# Altium footprint library SDCardAdapter.PcbLib: 1 footprints
Each footprint in its own frame and in the unit in brackets; x right, y up, seen from the top. Pads: shape width x height; smd on the part's side, far side on the other; paste and mask are expansions set on the pad; w line width, h text height; cw(c..) or ccw(c..) is an arc to the next point about the centre after c.
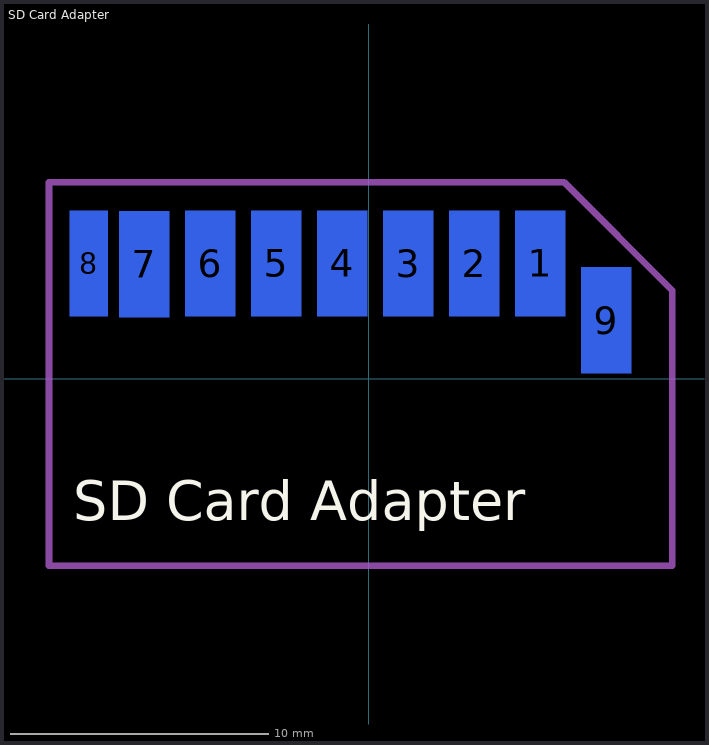
[diagram p0: the footprint, top view; thin cyan lines are the x and y axes]

## SD Card Adapter [mm]
pads (9):
  rect 1.94x4.1 smd far side: 1(6.636,4.473) 2(4.081,4.473) 3(1.525,4.473) 4(-1.03,4.473) 5(-3.585,4.473) 6(-6.141,4.473) 7(-8.696,4.448) 9(9.191,2.273)
  rect 1.46x4.1 smd far side: 8(-10.839,4.473)
Top Overlay:
  text "SD Card Adapter" at -11.43,-5.461 h1.52
Bottom Overlay:
  text "SD Card Adapter" at -11.43,-5.461 h1.52
Mechanical 1:
  lines w0.254: -12.379,-7.236 11.751,-7.236 11.751,3.432 7.56,7.623 -12.379,7.623 -12.379,-7.236